# Altium footprint library TQFP.PcbLib: 5 footprints
Each footprint in its own frame and in the unit in brackets; x right, y up, seen from the top. Pads: shape width x height; smd on the part's side, far side on the other; paste and mask are expansions set on the pad; w line width, h text height; cw(c..) or ccw(c..) is an arc to the next point about the centre after c.
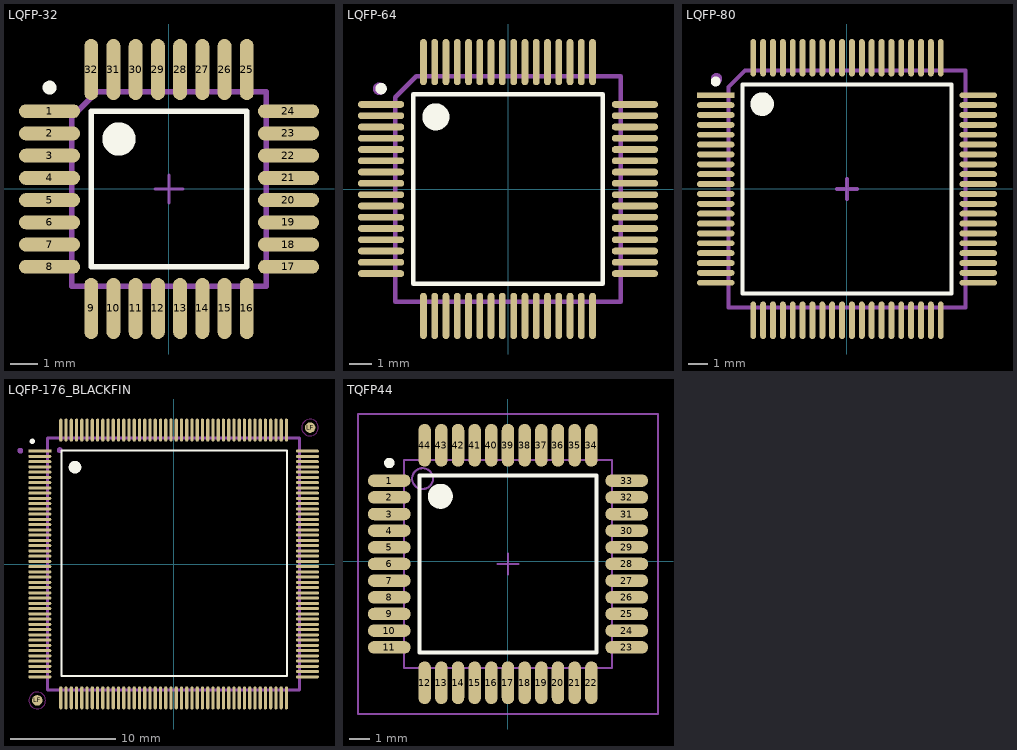
[diagram p0: the footprints below, top view; thin cyan lines are the x and y axes]

## LQFP-32 [mm] "QFP, 32-Leads, Body 9,2x9,2mm (max), Pitch 0,80mm, IPC Low Density"
height 2.45
pads (32):
  oval 2.2x0.5 smd: 1(-4.3,2.8) 2(-4.3,2) 3(-4.3,1.2) 4(-4.3,0.4) 5(-4.3,-0.4) 6(-4.3,-1.2) 7(-4.3,-2) 8(-4.3,-2.8) 17(4.3,-2.8) 18(4.3,-2) 19(4.3,-1.2) 20(4.3,-0.4) 21(4.3,0.4) 22(4.3,1.2) 23(4.3,2) 24(4.3,2.8)
  oval 0.5x2.2 smd: 9(-2.8,-4.3) 10(-2,-4.3) 11(-1.2,-4.3) 12(-0.4,-4.3) 13(0.4,-4.3) 14(1.2,-4.3) 15(2,-4.3) 16(2.8,-4.3) 25(2.8,4.3) 26(2,4.3) 27(1.2,4.3) 28(0.4,4.3) 29(-0.4,4.3) 30(-1.2,4.3) 31(-2,4.3) 32(-2.8,4.3)
Top Overlay:
  circle w0.6: c-1.8,1.8 r0.3
  circle w0.25: c-4.3,3.65 r0.125
  lines w0.2: -2.8,-2.8 2.8,-2.8 2.8,2.8 -2.8,2.8 -2.8,-2.8
Mechanical 13:
  lines w0.2: -3.5,-3.5 -3.5,2.596 -2.596,3.5 3.5,3.5 3.5,-3.5 -3.5,-3.5
  text ".Designator" at -2.413,0.254 h1.5
Mechanical 15:
  lines w0.1: -0.5,0 0.5,0 ; 0,-0.5 0,0.5
3D body: height 1.63, standoff -0.09, extent -4.555,-4.5 4.445,4.5

## LQFP-64 [mm] "SQFP, 64-Leads, Body 12,2x12,2mm (max), Pitch 0,50mm, IPC Low Density"
height 2.45
pads (64):
  oval 2.05x0.3 smd: 1(-5.625,3.75) 2(-5.625,3.25) 3(-5.625,2.75) 4(-5.625,2.25) 5(-5.625,1.75) 6(-5.625,1.25) 7(-5.625,0.75) 8(-5.625,0.25) 9(-5.625,-0.25) 10(-5.625,-0.75) 11(-5.625,-1.25) 12(-5.625,-1.75) 13(-5.625,-2.25) 14(-5.625,-2.75) 15(-5.625,-3.25) 16(-5.625,-3.75) 33(5.625,-3.75) 34(5.625,-3.25) 35(5.625,-2.75) 36(5.625,-2.25) 37(5.625,-1.75) 38(5.625,-1.25) 39(5.625,-0.75) 40(5.625,-0.25) 41(5.625,0.25) 42(5.625,0.75) 43(5.625,1.25) 44(5.625,1.75) 45(5.625,2.25) 46(5.625,2.75) 47(5.625,3.25) 48(5.625,3.75)
  oval 0.3x2.05 smd: 17(-3.75,-5.625) 18(-3.25,-5.625) 19(-2.75,-5.625) 20(-2.25,-5.625) 21(-1.75,-5.625) 22(-1.25,-5.625) 23(-0.75,-5.625) 24(-0.25,-5.625) 25(0.25,-5.625) 26(0.75,-5.625) 27(1.25,-5.625) 28(1.75,-5.625) 29(2.25,-5.625) 30(2.75,-5.625) 31(3.25,-5.625) 32(3.75,-5.625) 49(3.75,5.625) 50(3.25,5.625) 51(2.75,5.625) 52(2.25,5.625) 53(1.75,5.625) 54(1.25,5.625) 55(0.75,5.625) 56(0.25,5.625) 57(-0.25,5.625) 58(-0.75,5.625) 59(-1.25,5.625) 60(-1.75,5.625) 61(-2.25,5.625) 62(-2.75,5.625) 63(-3.25,5.625) 64(-3.75,5.625)
Top Overlay:
  circle w0.6: c-3.2,3.2 r0.3
  circle w0.25: c-5.625,4.45 r0.125
  lines w0.2: -4.2,-4.2 4.2,-4.2 4.2,4.2 -4.2,4.2 -4.2,-4.2
Mechanical 13:
  circle w0.3: c-5.715,4.445 r0.127
  lines w0.2: -5,-5 -5,4.064 -4.064,5 5,5 5,-5 -5,-5
  text ".Designator" at -2.413,6.096 h1.5
3D body: height 1.63, standoff 0, extent -6.072,-6.096 6.072,6.048

## LQFP-80 [mm] "TSQFP, 80-Leads, Body 14,1x14,1mm (max), Pitch 0,50mm, IPC Medium Density"
height 1.6
pads (80):
  rect 1.9x0.3 smd: 1(-6.65,4.75)
  oval 1.9x0.3 smd: 2(-6.65,4.25) 3(-6.65,3.75) 4(-6.65,3.25) 5(-6.65,2.75) 6(-6.65,2.25) 7(-6.65,1.75) 8(-6.65,1.25) 9(-6.65,0.75) 10(-6.65,0.25) 11(-6.65,-0.25) 12(-6.65,-0.75) 13(-6.65,-1.25) 14(-6.65,-1.75) 15(-6.65,-2.25) 16(-6.65,-2.75) 17(-6.65,-3.25) 18(-6.65,-3.75) 19(-6.65,-4.25) 20(-6.65,-4.75) 41(6.65,-4.75) 42(6.65,-4.25) 43(6.65,-3.75) 44(6.65,-3.25) 45(6.65,-2.75) 46(6.65,-2.25) 47(6.65,-1.75) 48(6.65,-1.25) 49(6.65,-0.75) 50(6.65,-0.25) 51(6.65,0.25) 52(6.65,0.75) 53(6.65,1.25) 54(6.65,1.75) 55(6.65,2.25) 56(6.65,2.75) 57(6.65,3.25) 58(6.65,3.75) 59(6.65,4.25) 60(6.65,4.75)
  oval 0.3x1.9 smd: 21(-4.75,-6.65) 22(-4.25,-6.65) 23(-3.75,-6.65) 24(-3.25,-6.65) 25(-2.75,-6.65) 26(-2.25,-6.65) 27(-1.75,-6.65) 28(-1.25,-6.65) 29(-0.75,-6.65) 30(-0.25,-6.65) 31(0.25,-6.65) 32(0.75,-6.65) 33(1.25,-6.65) 34(1.75,-6.65) 35(2.25,-6.65) 36(2.75,-6.65) 37(3.25,-6.65) 38(3.75,-6.65) 39(4.25,-6.65) 40(4.75,-6.65) 61(4.75,6.65) 62(4.25,6.65) 63(3.75,6.65) 64(3.25,6.65) 65(2.75,6.65) 66(2.25,6.65) 67(1.75,6.65) 68(1.25,6.65) 69(0.75,6.65) 70(0.25,6.65) 71(-0.25,6.65) 72(-0.75,6.65) 73(-1.25,6.65) 74(-1.75,6.65) 75(-2.25,6.65) 76(-2.75,6.65) 77(-3.25,6.65) 78(-3.75,6.65) 79(-4.25,6.65) 80(-4.75,6.65)
Top Overlay:
  circle w0.6: c-4.3,4.3 r0.3
  circle w0.25: c-6.65,5.45 r0.125
  lines w0.2: -5.3,-5.3 5.3,-5.3 5.3,5.3 -5.3,5.3 -5.3,-5.3
Mechanical 13:
  circle w0.3: c-6.612,5.588 r0.135
  lines w0.2: -6,-6 6,-6 6,6 -5.176,6 -6,5.176 -6,-6
  text ".Designator" at -3.048,0 h1.5
Mechanical 15:
  lines w0.2: -0.5,0 0.5,0 ; 0,-0.5 0,0.5
3D body: height 1.63, standoff -0.01, extent -7.1,-7.112 7.1,7.088

## LQFP-176_BLACKFIN [mm]
pads (178):
  rect 2.2x0.3 smd: 1(-12.75,10.75)
  oval 2.2x0.3 smd: 2(-12.75,10.25) 3(-12.75,9.75) 4(-12.75,9.25) 5(-12.75,8.75) 6(-12.75,8.25) 7(-12.75,7.75) 8(-12.75,7.25) 9(-12.75,6.75) 10(-12.75,6.25) 11(-12.75,5.75) 12(-12.75,5.25) 13(-12.75,4.75) 14(-12.75,4.25) 15(-12.75,3.75) 16(-12.75,3.25) 17(-12.75,2.75) 18(-12.75,2.25) 19(-12.75,1.75) 20(-12.75,1.25) 21(-12.75,0.75) 22(-12.75,0.25) 23(-12.75,-0.25) 24(-12.75,-0.75) 25(-12.75,-1.25) 26(-12.75,-1.75) 27(-12.75,-2.25) 28(-12.75,-2.75) 29(-12.75,-3.25) 30(-12.75,-3.75) 31(-12.75,-4.25) 32(-12.75,-4.75) 33(-12.75,-5.25) 34(-12.75,-5.75) 35(-12.75,-6.25) 36(-12.75,-6.75) 37(-12.75,-7.25) 38(-12.75,-7.75) 39(-12.75,-8.25) 40(-12.75,-8.75) 41(-12.75,-9.25) 42(-12.75,-9.75) 43(-12.75,-10.25) 44(-12.75,-10.75) 89(12.75,-10.75) 90(12.75,-10.25) 91(12.75,-9.75) 92(12.75,-9.25) 93(12.75,-8.75) 94(12.75,-8.25) 95(12.75,-7.75) 96(12.75,-7.25) 97(12.75,-6.75) 98(12.75,-6.25) 99(12.75,-5.75) 100(12.75,-5.25) 101(12.75,-4.75) 102(12.75,-4.25) 103(12.75,-3.75) 104(12.75,-3.25) 105(12.75,-2.75) 106(12.75,-2.25) 107(12.75,-1.75) 108(12.75,-1.25) 109(12.75,-0.75) 110(12.75,-0.25) 111(12.75,0.25) 112(12.75,0.75) 113(12.75,1.25) 114(12.75,1.75) 115(12.75,2.25) 116(12.75,2.75) 117(12.75,3.25) 118(12.75,3.75) 119(12.75,4.25) 120(12.75,4.75) 121(12.75,5.25) 122(12.75,5.75) 123(12.75,6.25) 124(12.75,6.75) 125(12.75,7.25) 126(12.75,7.75) 127(12.75,8.25) 128(12.75,8.75) 129(12.75,9.25) 130(12.75,9.75) 131(12.75,10.25) 132(12.75,10.75)
  oval 0.3x2.2 smd: 45(-10.75,-12.75) 46(-10.25,-12.75) 47(-9.75,-12.75) 48(-9.25,-12.75) 49(-8.75,-12.75) 50(-8.25,-12.75) 51(-7.75,-12.75) 52(-7.25,-12.75) 53(-6.75,-12.75) 54(-6.25,-12.75) 55(-5.75,-12.75) 56(-5.25,-12.75) 57(-4.75,-12.75) 58(-4.25,-12.75) 59(-3.75,-12.75) 60(-3.25,-12.75) 61(-2.75,-12.75) 62(-2.25,-12.75) 63(-1.75,-12.75) 64(-1.25,-12.75) 65(-0.75,-12.75) 66(-0.25,-12.75) 67(0.25,-12.75) 68(0.75,-12.75) 69(1.25,-12.75) 70(1.75,-12.75) 71(2.25,-12.75) 72(2.75,-12.75) 73(3.25,-12.75) 74(3.75,-12.75) 75(4.25,-12.75) 76(4.75,-12.75) 77(5.25,-12.75) 78(5.75,-12.75) 79(6.25,-12.75) 80(6.75,-12.75) 81(7.25,-12.75) 82(7.75,-12.75) 83(8.25,-12.75) 84(8.75,-12.75) 85(9.25,-12.75) 86(9.75,-12.75) 87(10.25,-12.75) 88(10.75,-12.75) 133(10.75,12.75) 134(10.25,12.75) 135(9.75,12.75) 136(9.25,12.75) 137(8.75,12.75) 138(8.25,12.75) 139(7.75,12.75) 140(7.25,12.75) 141(6.75,12.75) 142(6.25,12.75) 143(5.75,12.75) 144(5.25,12.75) 145(4.75,12.75) 146(4.25,12.75) 147(3.75,12.75) 148(3.25,12.75) 149(2.75,12.75) 150(2.25,12.75) 151(1.75,12.75) 152(1.25,12.75) 153(0.75,12.75) 154(0.25,12.75) 155(-0.25,12.75) 156(-0.75,12.75) 157(-1.25,12.75) 158(-1.75,12.75) 159(-2.25,12.75) 160(-2.75,12.75) 161(-3.25,12.75) 162(-3.75,12.75) 163(-4.25,12.75) 164(-4.75,12.75) 165(-5.25,12.75) 166(-5.75,12.75) 167(-6.25,12.75) 168(-6.75,12.75) 169(-7.25,12.75) 170(-7.75,12.75) 171(-8.25,12.75) 172(-8.75,12.75) 173(-9.25,12.75) 174(-9.75,12.75) 175(-10.25,12.75) 176(-10.75,12.75)
  round 1 smd paste-1 mask+0.5: LF(-13,-13) LF(13,13)
Top Layer keep-out:
  circle w0.1: c13,13 r0.8
  circle w0.1: c-13,-13 r0.8
Top Overlay:
  circle w0.6: c-9.398,9.225 r0.3
  circle w0.25: c-13.462,11.686 r0.125
  lines w0.2: -10.668,-10.668 10.795,-10.668 10.795,10.795 -10.668,10.795 -10.668,-10.668
Mechanical 3:
  circle w0.3: c-14.605,10.795 r0.127
  lines w0.3: -12,-11.303 -12,-12 -11.303,-12 ; -12,11.303 -12,12 -11.303,12 ; 11.303,-12 12,-12 12,-11.303 ; 11.303,12 12,12 12,11.303
Mechanical 13:
  circle w0.3: c-10.85,10.85 r0.127
  lines w0.3: -12,-12 12,-12 12,12 -12,12 -12,-12
  text ".Designator" at -5.334,5.969 h2.5
3D body: height 1.6, standoff 1.5, extent -10.667,-10.667 10.794,10.794
3D body: height 1.55, standoff -0.05, extent -13,-12.954 13,13.046

## TQFP44 [mm]
pads (44):
  oval 2.05x0.6 smd: 1(-5.7,3.873) 2(-5.7,3.073) 3(-5.7,2.273) 4(-5.7,1.473) 5(-5.7,0.673) 6(-5.7,-0.127) 7(-5.7,-0.927) 8(-5.7,-1.727) 9(-5.7,-2.527) 10(-5.7,-3.327) 11(-5.7,-4.127) 23(5.7,-4.127) 24(5.7,-3.327) 25(5.7,-2.527) 26(5.7,-1.727) 27(5.7,-0.927) 28(5.7,-0.127) 29(5.7,0.673) 30(5.7,1.473) 31(5.7,2.273) 32(5.7,3.073) 33(5.7,3.873)
  oval 0.6x2.05 smd: 12(-4,-5.827) 13(-3.2,-5.827) 14(-2.4,-5.827) 15(-1.6,-5.827) 16(-0.8,-5.827) 17(0,-5.827) 18(0.8,-5.827) 19(1.6,-5.827) 20(2.4,-5.827) 21(3.2,-5.827) 22(4,-5.827) 34(4,5.573) 35(3.2,5.573) 36(2.4,5.573) 37(1.6,5.573) 38(0.8,5.573) 39(0,5.573) 40(-0.8,5.573) 41(-1.6,5.573) 42(-2.4,5.573) 43(-3.2,5.573) 44(-4,5.573)
Top Overlay:
  circle w0.6: c-3.25,3.123 r0.3
  circle w0.25: c-5.7,4.723 r0.125
  lines w0.2: -4.25,-4.377 4.25,-4.377 4.25,4.123 -4.25,4.123 -4.25,-4.377
Mechanical 13:
  circle w0.1: c-4.1,3.973 r0.5
  lines w0.1: -5,-5.127 5,-5.127 5,4.873 -5,4.873 -5,-5.127
Mechanical 15:
  lines w0.1: -0.5,-0.127 0.5,-0.127 ; 0,-0.627 0,0.373 ; -7.2,-7.327 7.2,-7.327 7.2,7.073 -7.2,7.073 -7.2,-7.327